# EAGLE library part BOARD-MMC (library mylib)
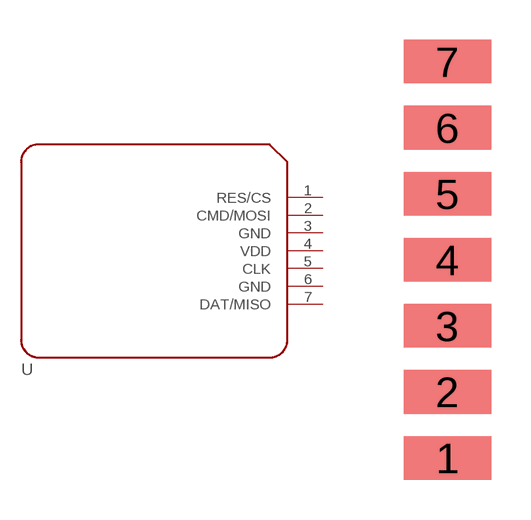
[diagram p106: symbol with the pads of BOARD-MMC; footprint BOARD-MMC]

Designator prefix U

## BOARD-MMC  [BOARD-MMC]
1  RES/CS
2  CMD/MOSI
3  GND  pwr
4  VDD  pwr
5  CLK  in
6  GND  pwr
7  DAT/MISO

## Footprint BOARD-MMC (pad centres in mm)
smd 3.3 x 1.65: 1 2.9,5.1; 2 2.9,7.6; 3 2.9,10.1; 4 2.9,12.6; 5 2.9,15.1; 6 2.9,17.6; 7 2.9,20.1